# EAGLE library part EIMODULE_OLED_128X64 (library FriedCircuits-OLED)
EiModule OLED 128x64. Created by FriedCircuits v1.0. Purchase module from https://friedcircuits.us/14
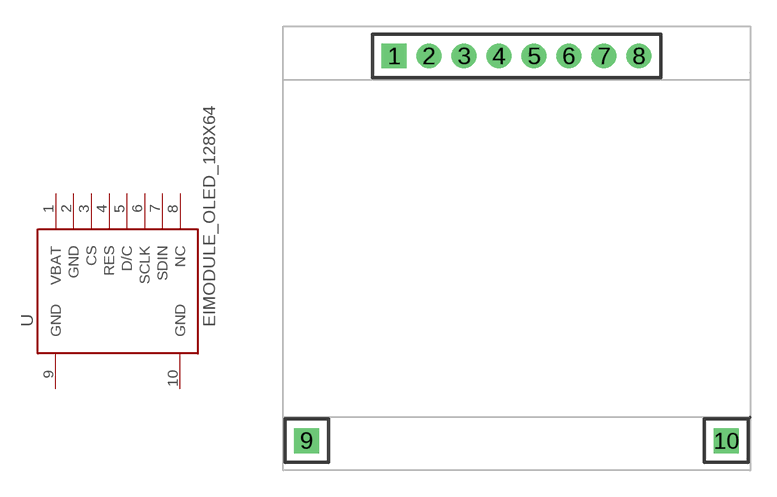
[diagram p0: symbol with the pads of EIMODULE_OLED_128X64; footprint EIMODULE_OLED_128X64]

Designator prefix -

## EIMODULE_OLED_128X64  [EIMODULE_OLED_128X64]
1  VBAT
2  GND
3  CS
4  RES
5  D/C
6  SCLK
7  SDIN
8  NC
9  GND
10  GND

## Footprint EIMODULE_OLED_128X64 (pad centres in mm)
EIModule OLED 128x64
drill 0.914 square: 1 6.35,23.7; 9 1.35,1.7; 10 25.34,1.7
drill 0.914: 2 8.35,23.7; 3 10.35,23.7; 4 12.35,23.7; 5 14.35,23.7; 6 16.35,23.7; 7 18.35,23.7; 8 20.35,23.7